# Altium schematic symbol library PBL - Resistors.SCHLIB: 161 symbols (part 3 of 3)
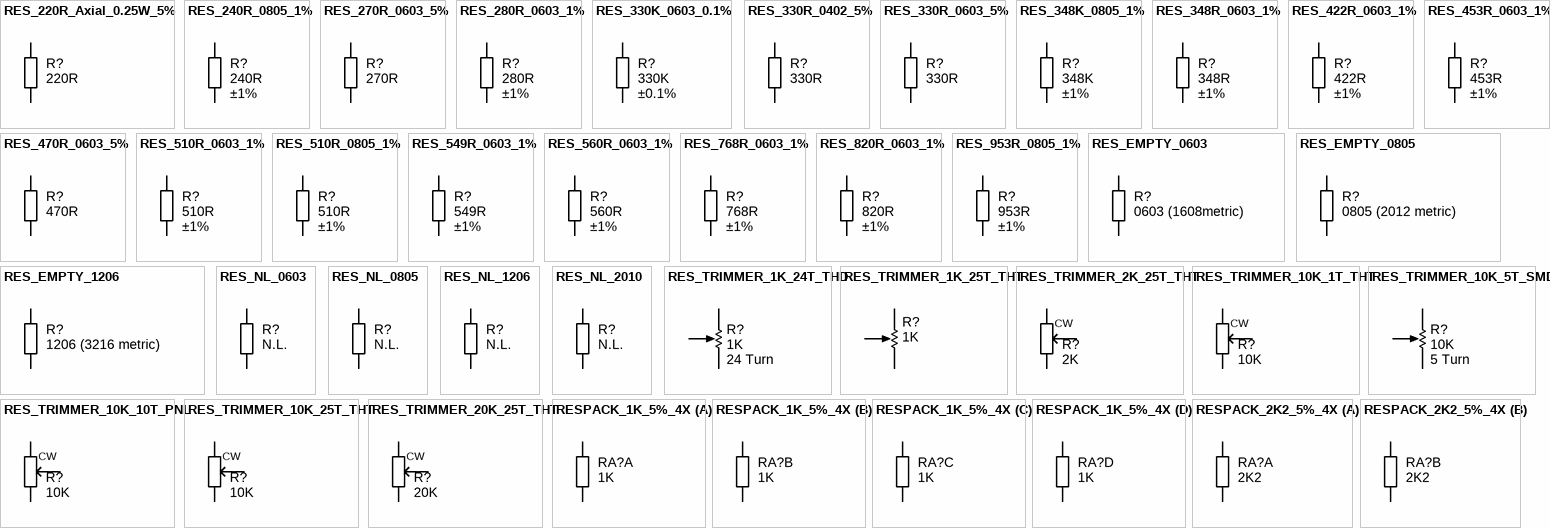
[diagram p6: symbols RES_220R_Axial_0.25W_5% to RESPACK_2K2_5%_4X]

## RES_TRIMMER_10K_5T_SMD
designator R?, comment 5 Turn  value 10K
Trimmer SMD 10K 250mW 5-turn Side-adjust; Manufacturer 1: Bourns Inc.; Manufacturer Part Number 1: 3214G-1-103E; Tolerance: 10%; Ratings: 5 turn variable cermet; Number of Turns: 5; SCDType: spec; Supplier 1: Digi-Key; Supplier Part Number 1: 3214G-1-103ECT-ND
footprint TrimPot_SMD_Bourns_3214G (Bourns- 3214G - TRIMMER)
pins: 1 CCW, 2 WIPER, 3 CW

## RES_TRIMMER_10K_10T_PNL
designator R?, comment value 10K  (hidden comment: 10 turns)  (mechanical)
Trimmer panel mount 10K 2W 10-turn; Manufacturer: Bourns Inc.; Manufacturer Part Number: 3590S-2-103L; Tolerance: ±5%; Ratings: 2W; ±50ppm/°C; SCDType: spec; Material: Wirewound; Supplier 1: Digi-Key; Supplier Part Number 1: 3590S-2-103L-ND; ComponentLink1URL: http://www.bourns.com/data/global/pdfs/3590.pdf; ComponentLink1Description: 3590 Series Datasheet; Package / Case: Round - 0.875" Dia x 0.732" L (22.22mm x 18.60mm)
pins: 1 CCW, 2 W, 3 CW

## RES_TRIMMER_10K_25T_THT
designator R?, comment value 10K  (hidden comment: 25 turns)
Trimmer THD 10K 500mW 25-turn; Manufacturer 1: Murata Electronics North America; Manufacturer Part Number 1: PV36X103C01B00; Tolerance: ±10%; Ratings: 1/2W; ±100ppm/°C; SCDType: spec; Material: Cermet; Package / Case: 10.9mm L x 5.0mm W x 10.0mm H; Supplier 1: Digi-Key; Supplier Part Number 1: 490-2894-ND
footprint TRIMPOT_THT_PV36X (TRIMMER, MURATA, PV36X)
pins: CCW 1, CW 3, W 2

## RES_TRIMMER_20K_25T_THT
designator R?, comment value 20K  (hidden comment: 25 turns)
Trimmer THD 20K 500mW 25-turn; Manufacturer 1: Murata Electronics North America; Manufacturer Part Number 1: PV36X203C01B00; Tolerance: ±10%; Ratings: 1/2W; ±100ppm/°C; SCDType: spec; Material: Cermet; Package / Case: 10.9mm L x 5.0mm W x 10.0mm H; Supplier 1: Digi-Key; Supplier Part Number 1: 490-2900-ND
footprint TrimPot_THT_PV36X (TRIMMER, MURATA, PV36X)
pins: CCW 1, CW 3, W 2

## RESPACK_1K_5%_4X
designator RA?, comment value 1K  (hidden comment: Film Res Pack)
Resistor array 1K Ohm 4-pack 62.5mW 5% 4x1608 SMD; Manufacturer 1: Yageo; Manufacturer Part Number 1: YC164-JR-071KL; Ratings: 1/16 W; Number of Resistors: 4; Circuit Type: Isolated; SCDType: source; Package / Case: 1206 (3216 Metric), Convex; Tolerance: ±5%; Number of Pins: 8; Power Per Element: 62.5mW; Mounting Type: Surface Mount; Supplier Device Package: 4 x 0603; Operating Temperature: -55°C ~ 155°C; ComponentLink1URL: http://www.yageo.com/documents/recent/PYu-YC_TC164_51_RoHS_L_3.pdf; ComponentLink1Description: http://www.yageo.com/documents/recent/PYu-YC_TC164_51_RoHS_L_3.pdf; Supplier 1: Digi-Key; Supplier Part Number 1: YC164J-1.0KCT-ND; Supplier 2: Digi-Key; Supplier Part Number 2: CRA6S81.0KCT-ND; Manufacturer 2: Vishay Dale; Manufacturer Part Number 2: CRA06S0831K00JTA; ComponentLink2URL: http://www.vishay.com/doc?31002; ComponentLink2Description: http://www.vishay.com/doc?31002; Supplier 3: Digi-Key; Supplier Part Number 3: RAVF164DJT1K00CT-ND; Manufacturer 3: Stackpole Electronics Inc; Manufacturer Part Number 3: RAVF164DJT1K00; RoHS 3: RoHS Compliant; Size / Dimension: 0.126" L x 0.063" W (3.20mm x 1.60mm); ComponentLink3URL: http://www.seielect.com/Catalog/SEI-RAVF.pdf; ComponentLink3Description: http://www.seielect.com/Catalog/SEI-RAVF.pdf; Supplier 4: Digi-Key; Supplier Part Number 4: Y9102CT-ND; Manufacturer 4: Panasonic Electronic Components; Manufacturer Part Number 4: EXB-38V102JV; RoHS 4: RoHS Compliant; ComponentLink4URL: http://industrial.panasonic.com/www-cgi/jvcr13pz.cgi?E+PZ+3+AOC0001+EXB38V102JV+7+WW; ComponentLink4Description: http://industrial.panasonic.com/www-cgi/jvcr13pz.cgi?E+PZ+3+AOC0001+EXB38V102JV+7+WW; Manufacturer Part Number 5: 4D03WGJ0102T5E; Manufacturer 5: Royal Ohm
footprint RESCAXS50P160X320X70-8N (Resistor Pack, Body 1.6x3.2mm, 4x0603, IPC Medium Density)
part A pins: 1, 8
part B pins: 2, 7
part C pins: 3, 6
part D pins: 4, 5

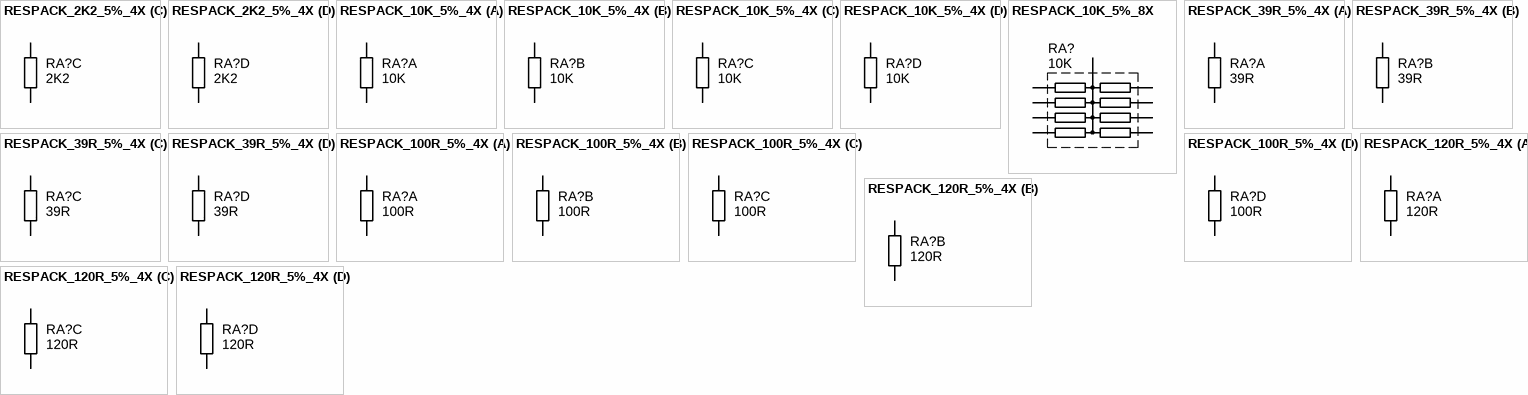
[diagram p4: symbols RESPACK_2K2_5%_4X to RESPACK_120R_5%_4X]

## RESPACK_2K2_5%_4X
designator RA?, comment value 2K2  (hidden comment: Thick Film)
Resistor array 2.2K Ohm 4-pack 62.5mW 5% 4x1608 SMD; Manufacturer 1: Yageo; Manufacturer Part Number 1: YC164-JR-072K2L; Ratings: 1/16 W; Number of Resistors: 4; Circuit Type: Isolated; SCDType: source; Package / Case: 1206 (3216 Metric), Convex; Tolerance: ±5%; Supplier 1: Digi-Key; Supplier Part Number 1: YC164J-2.2KCT-ND; Number of Pins: 8; Power Per Element: 62.5mW; Mounting Type: Surface Mount; Supplier Device Package: 4 x 0603; Operating Temperature: -55°C ~ 155°C; ComponentLink1URL: http://www.yageo.com/documents/recent/PYu-YC_TC164_51_RoHS_L_3.pdf; ComponentLink1Description: http://www.yageo.com/documents/recent/PYu-YC_TC164_51_RoHS_L_3.pdf; Supplier 2: Digi-Key; Supplier Part Number 2: CRA6S82.2KCT-ND; Manufacturer 2: Vishay Dale; Manufacturer Part Number 2: CRA06S0832K20JTA; RoHS 2: RoHS Compliant; Size / Dimension: 0.126" L x 0.059" W (3.20mm x 1.50mm); ComponentLink2URL: http://www.vishay.com/doc?31002; ComponentLink2Description: http://www.vishay.com/doc?31002; Supplier 3: Digi-Key; Supplier Part Number 3: RAVF164DJT2K20CT-ND; Manufacturer 3: Stackpole Electronics Inc; Manufacturer Part Number 3: RAVF164DJT2K20; RoHS 3: RoHS Compliant; ComponentLink3URL: http://www.seielect.com/Catalog/SEI-RAVF.pdf; ComponentLink3Description: http://www.seielect.com/Catalog/SEI-RAVF.pdf; Supplier 4: Digi-Key; Supplier Part Number 4: Y9222CT-ND; Manufacturer 4: Panasonic Electronic Components; Manufacturer Part Number 4: EXB-38V222JV; RoHS 4: RoHS Compliant; ComponentLink4URL: http://industrial.panasonic.com/www-cgi/jvcr13pz.cgi?E+PZ+3+AOC0001+EXB38V222JV+7+WW; ComponentLink4Description: http://industrial.panasonic.com/www-cgi/jvcr13pz.cgi?E+PZ+3+AOC0001+EXB38V222JV+7+WW; Manufacturer 5: Royal Ohm; Manufacturer Part Number 5: 4D03WGJ0222T5E
footprint RESCAXS50P160X320X70-8N (Resistor Pack, Body 1.6x3.2mm, 4x0603, IPC Medium Density)
part A pins: 1, 8
part B pins: 2, 7
part C pins: 3, 6
part D pins: 4, 5

## RESPACK_10K_5%_4X
designator RA?, comment value 10K  (hidden comment: Film Res Cap)
Resistor array 10K Ohm 4-pack 62.5mW 5% 4x1608 SMD; Manufacturer 1: Yageo; Manufacturer Part Number 1: YC164-JR-0710KL; Ratings: 1/16 W; Number of Resistors: 4; Circuit Type: Isolated; SCDType: source; Package / Case: 1206 (3216 Metric), Convex; Tolerance: ±5%; Number of Pins: 8; Power Per Element: 62.5mW; Mounting Type: Surface Mount; Supplier Device Package: 4 x 0603; Operating Temperature: -55°C ~ 155°C; Supplier 1: Digi-Key; Supplier Part Number 1: YC164J-10KCT-ND; RoHS 1: RoHS Compliant; Size / Dimension: 0.126" L x 0.063" W (3.20mm x 1.60mm); ComponentLink1URL: http://www.yageo.com/documents/recent/PYu-YC_TC164_51_RoHS_L_3.pdf; ComponentLink1Description: http://www.yageo.com/documents/recent/PYu-YC_TC164_51_RoHS_L_3.pdf; Supplier 2: Digi-Key; Supplier Part Number 2: CRA6S810KCT-ND; Manufacturer 2: Vishay Dale; Manufacturer Part Number 2: CRA06S08310K0JTA; RoHS 2: RoHS Compliant; ComponentLink2URL: http://www.vishay.com/doc?31002; ComponentLink2Description: http://www.vishay.com/doc?31002; Supplier 3: Digi-Key; Supplier Part Number 3: RAVF164DJT10K0CT-ND; Manufacturer 3: Stackpole Electronics Inc; Manufacturer Part Number 3: RAVF164DJT10K0; RoHS 3: RoHS Compliant; ComponentLink3URL: http://www.seielect.com/Catalog/SEI-RAVF.pdf; ComponentLink3Description: http://www.seielect.com/Catalog/SEI-RAVF.pdf; Supplier 4: Digi-Key; Supplier Part Number 4: Y9103CT-ND; Manufacturer 4: Panasonic Electronic Components; Manufacturer Part Number 4: EXB-38V103JV; RoHS 4: RoHS Compliant; ComponentLink4URL: http://industrial.panasonic.com/www-cgi/jvcr13pz.cgi?E+PZ+3+AOC0001+EXB38V103JV+7+WW; ComponentLink4Description: http://industrial.panasonic.com/www-cgi/jvcr13pz.cgi?E+PZ+3+AOC0001+EXB38V103JV+7+WW
footprint RESCAXS50P160X320X70-8N (Resistor Pack, Body 1.6x3.2mm, 4x0603, IPC Medium Density)
part A pins: 1, 8
part B pins: 2, 7
part C pins: 3, 6
part D pins: 4, 5

## RESPACK_10K_5%_8X
designator RA?, comment value 10K  (hidden comment: Thick Film)
Resistor array 10K Ohm 8-pack 62.5mW 5% 1608 SMD; Manufacturer 1: Panasonic - ECG; Manufacturer Part Number 1: EXB-E10C103J; Ratings: 1/16 W; Number of Resistors: 8; SCDType: source; Package / Case: 1608 (4021 Metric), Concave; Tolerance: ±5%; Supplier 1: Digi-Key; Supplier Part Number 1: U8103CT-ND
footprint RESP4021N8X (Resistor Pack, Body 4.0x2.1mm, 8 elements bussed, IPC Medium Density)
pins: 1 COM, 2, 3, 4, 5, 6 COM, 7, 8, 9, 10

## RESPACK_39R_5%_4X
designator RA?, comment value 39R  (hidden comment: Thick Film)
Resistor array 39 Ohm 4-pack 62.5mW 5% 4x1608 SMD; Manufacturer 1: Yageo; Manufacturer Part Number 1: YC164-JR-0739RL; Ratings: 1/16 W; Number of Resistors: 4; Circuit Type: Isolated; Parameter Name: ±200ppm/°C; SCDType: source; Package / Case: 1206 (3216 Metric), Convex; Tolerance: ±5%; Number of Pins: 8; Power Per Element: 62.5mW; Mounting Type: Surface Mount; Supplier Device Package: 4 x 0603; Operating Temperature: -55°C ~ 155°C; Supplier 1: Digi-Key; Supplier Part Number 1: YC164J-39CT-ND; RoHS 1: RoHS Compliant; Size / Dimension: 0.126" L x 0.063" W (3.20mm x 1.60mm); ComponentLink1URL: http://www.yageo.com/documents/recent/PYu-YC_TC164_51_RoHS_L_3.pdf; ComponentLink1Description: http://www.yageo.com/documents/recent/PYu-YC_TC164_51_RoHS_L_3.pdf; Supplier 2: Digi-Key; Supplier Part Number 2: CRA6S839CT-ND; Manufacturer 2: Vishay Dale; Manufacturer Part Number 2: CRA06S08339R0JTA; RoHS 2: RoHS Compliant; ComponentLink2URL: http://www.vishay.com/doc?31002; ComponentLink2Description: http://www.vishay.com/doc?31002; Supplier 3: Digi-Key; Supplier Part Number 3: RAVF164DJT39R0CT-ND; Manufacturer 3: Stackpole Electronics Inc; Manufacturer Part Number 3: RAVF164DJT39R0; RoHS 3: RoHS Compliant; ComponentLink3URL: http://www.seielect.com/Catalog/SEI-RAVF.pdf; ComponentLink3Description: http://www.seielect.com/Catalog/SEI-RAVF.pdf; Supplier 4: Digi-Key; Supplier Part Number 4: Y9390CT-ND; Manufacturer 4: Panasonic Electronic Components; Manufacturer Part Number 4: EXB-38V390JV; RoHS 4: RoHS Compliant; ComponentLink4URL: http://industrial.panasonic.com/www-cgi/jvcr13pz.cgi?E+PZ+3+AOC0001+EXB38V390JV+7+WW; ComponentLink4Description: http://industrial.panasonic.com/www-cgi/jvcr13pz.cgi?E+PZ+3+AOC0001+EXB38V390JV+7+WW
footprint RESCAXS50P160X320X70-8N (Resistor Pack, Body 1.6x3.2mm, 4x0603, IPC Medium Density)
part A pins: 1, 8
part B pins: 2, 7
part C pins: 3, 6
part D pins: 4, 5

## RESPACK_100R_5%_4X
designator RA?, comment value 100R  (hidden comment: Thick Film)
Resistor array 100 Ohm 4-pack 62.5mW 5% 4x1608 SMD; Manufacturer 1: Yageo; Manufacturer Part Number 1: YC164-JR-07100RL; Ratings: 1/16 W; Number of Resistors: 4; Circuit Type: Isolated; Parameter Name: ±200ppm/°C; SCDType: source; Package / Case: 1206 (3216 Metric), Convex; Tolerance: ±5%; Number of Pins: 8; Power Per Element: 62.5mW; Mounting Type: Surface Mount; Supplier Device Package: 4 x 0603; Operating Temperature: -55°C ~ 155°C; Supplier 1: Digi-Key; Supplier Part Number 1: YC164J-100CT-ND; RoHS 1: RoHS Compliant; Size / Dimension: 0.126" L x 0.063" W (3.20mm x 1.60mm); ComponentLink1URL: http://www.yageo.com/documents/recent/PYu-YC_TC164_51_RoHS_L_3.pdf; ComponentLink1Description: http://www.yageo.com/documents/recent/PYu-YC_TC164_51_RoHS_L_3.pdf; Supplier 2: Digi-Key; Supplier Part Number 2: CRA6S8100CT-ND; Manufacturer 2: Vishay Dale; Manufacturer Part Number 2: CRA06S083100RJTA; RoHS 2: RoHS Compliant; ComponentLink2URL: http://www.vishay.com/doc?31002; ComponentLink2Description: http://www.vishay.com/doc?31002; Supplier 3: Digi-Key; Supplier Part Number 3: RAVF164DJT100RCT-ND; Manufacturer 3: Stackpole Electronics Inc; Manufacturer Part Number 3: RAVF164DJT100R; RoHS 3: RoHS Compliant; ComponentLink3URL: http://www.seielect.com/Catalog/SEI-RAVF.pdf; ComponentLink3Description: http://www.seielect.com/Catalog/SEI-RAVF.pdf; Supplier 4: Digi-Key; Supplier Part Number 4: Y9101CT-ND; Manufacturer 4: Panasonic Electronic Components; Manufacturer Part Number 4: EXB-38V101JV; RoHS 4: RoHS Compliant; ComponentLink4URL: http://industrial.panasonic.com/www-cgi/jvcr13pz.cgi?E+PZ+3+AOC0001+EXB38V101JV+7+WW; ComponentLink4Description: http://industrial.panasonic.com/www-cgi/jvcr13pz.cgi?E+PZ+3+AOC0001+EXB38V101JV+7+WW
footprint RESCAXS50P160X320X70-8N (Resistor Pack, Body 1.6x3.2mm, 4x0603, IPC Medium Density)
part A pins: 1, 8
part B pins: 2, 7
part C pins: 3, 6
part D pins: 4, 5

## RESPACK_120R_5%_4X
designator RA?, comment value 120R  (hidden comment: Thick Film)
Resistor array 120 Ohm 4-pack 62.5mW 5% 4x1608 SMD; Manufacturer 1: Yageo; Manufacturer Part Number 1: YC164-JR-07120RL; Ratings: 1/16 W; Number of Resistors: 4; Circuit Type: Isolated; Parameter Name: ±200ppm/°C; SCDType: source; Package / Case: 1206 (3216 Metric), Convex; Tolerance: ±5%; Number of Pins: 8; Power Per Element: 62.5mW; Mounting Type: Surface Mount; Supplier Device Package: 4 x 0603; Operating Temperature: -55°C ~ 155°C; ComponentLink1URL: http://www.yageo.com/documents/recent/PYu-YC_TC164_51_RoHS_L_3.pdf; ComponentLink1Description: http://www.yageo.com/documents/recent/PYu-YC_TC164_51_RoHS_L_3.pdf; Supplier 1: Digi-Key; Supplier Part Number 1: YC164J-120CT-ND; Supplier 2: Digi-Key; Supplier Part Number 2: CRA6S8120CT-ND; Manufacturer 2: Vishay Dale; Manufacturer Part Number 2: CRA06S083120RJTA; RoHS 2: RoHS Compliant; Size / Dimension: 0.126" L x 0.059" W (3.20mm x 1.50mm); ComponentLink2URL: http://www.vishay.com/doc?31002; ComponentLink2Description: http://www.vishay.com/doc?31002; RoHS 1: RoHS Compliant; Supplier 3: Digi-Key; Supplier Part Number 3: Y9121CT-ND; Manufacturer 3: Panasonic Electronic Components; Manufacturer Part Number 3: EXB-38V121JV; RoHS 3: RoHS Compliant; ComponentLink3URL: http://industrial.panasonic.com/www-cgi/jvcr13pz.cgi?E+PZ+3+AOC0001+EXB38V121JV+7+WW; ComponentLink3Description: http://industrial.panasonic.com/www-cgi/jvcr13pz.cgi?E+PZ+3+AOC0001+EXB38V121JV+7+WW; Supplier 4: Digi-Key; Supplier Part Number 4: RAVF164DJT120R-ND; Manufacturer 4: Stackpole Electronics Inc; Manufacturer Part Number 4: RAVF164DJT120R; RoHS 4: RoHS Compliant; ComponentLink4URL: http://www.seielect.com/Catalog/SEI-RAVF.pdf; ComponentLink4Description: http://www.seielect.com/Catalog/SEI-RAVF.pdf
footprint RESCAXS50P160X320X70-8N (Resistor Pack, Body 1.6x3.2mm, 4x0603, IPC Medium Density)
part A pins: 1, 8
part B pins: 2, 7
part C pins: 3, 6
part D pins: 4, 5